# Altium footprint library EsoCore.PcbLib: 105 footprints (part 3 of 7)
Each footprint in its own frame and in the unit in brackets; x right, y up, seen from the top. Pads: shape width x height; smd on the part's side, far side on the other; paste and mask are expansions set on the pad; w line width, h text height; cw(c..) or ccw(c..) is an arc to the next point about the centre after c.
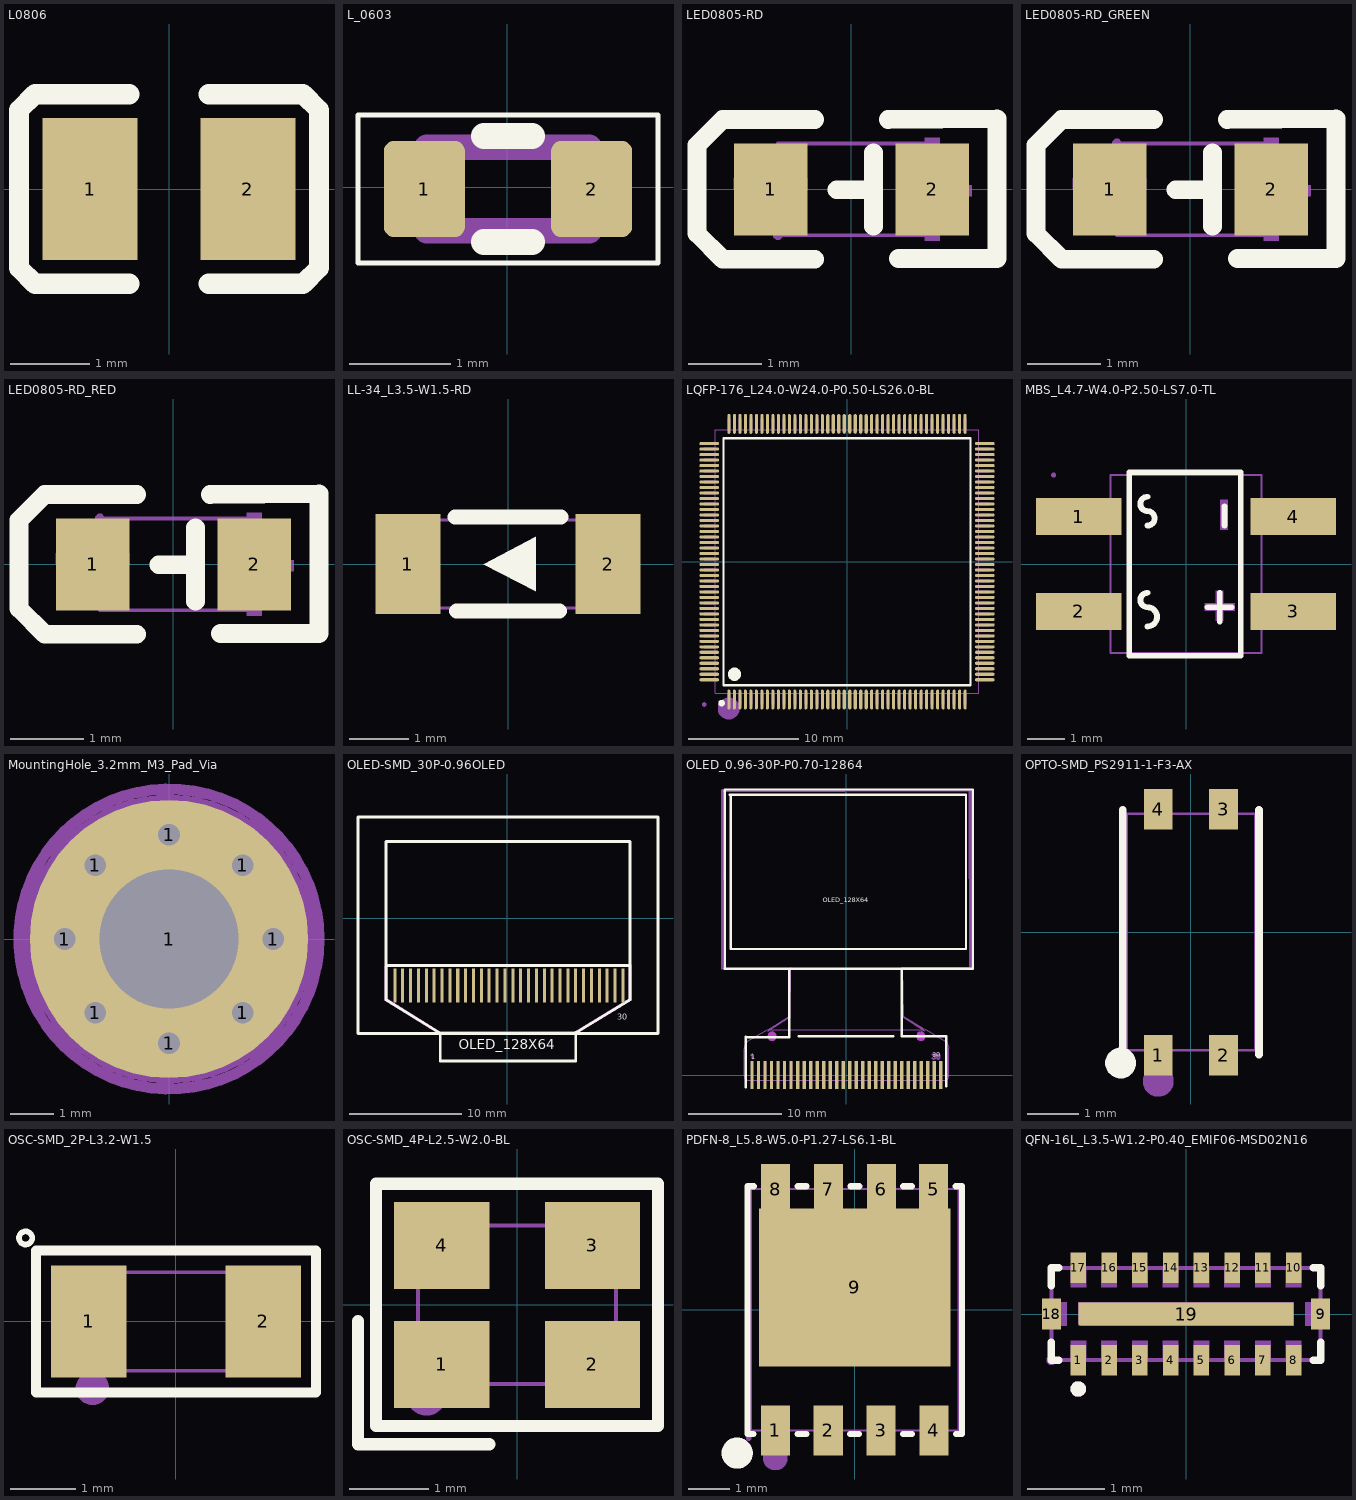
[diagram p2: the footprints below, top view; thin cyan lines are the x and y axes]

## L0806 [mm]
pads (2):
  rect 1.2x1.8 smd paste+0 mask+0.051: 1(-1,0) 2(1,0)
Top Overlay:
  lines w0.254: -0.5,-1.2 -1.55,-1.2 -1.7,-1.2 -1.9,-1 -1.9,1 -1.7,1.2 -1.55,1.2 -0.5,1.2 ; 0.5,-1.2 1.55,-1.2 1.7,-1.2 1.9,-1 1.9,1 1.7,1.2 1.55,1.2 0.5,1.2
3D body "indcutor0806x.step": height 1, standoff 0, extent -0.95,-0.78 1.05,0.82

## L_0603 [mm]
pads (2):
  rrect25% 0.8x0.95 smd mask+0: 1(-0.819,-0.019) 2(0.831,-0.019)
Top Overlay:
  lines w0.051: -1.474,-0.749 1.486,-0.749 1.486,0.711 -1.474,0.711 -1.474,-0.749
  lines w0.254: -0.231,-0.541 0.244,-0.541 ; -0.231,0.504 0.244,0.504
Mechanical 10:
  lines w0.254: -0.794,-0.431 0.806,-0.431 0.806,0.394 -0.794,0.394 -0.794,-0.431
  text "'.Designator'" at -1.651,-0.165 h0.4
3D body "R_0603_1608Metric.step": height 0.45, standoff 0, extent -0.794,-0.419 0.806,0.381

## LED0805-RD [mm]
pads (2):
  rect 1x1.25 smd: 1(-1.1,0) 2(1.1,0)
Top Overlay:
  lines w0.254: -0.5,-0.95 -1.75,-0.95 ; -0.5,0.95 -1.75,0.95 ; -0.2,-0.005 0.3,-0.005 ; 0.3,-0.5 0.3,0.5 ; 0.5,0.95 1.98,0.96 1.98,-0.94 0.64,-0.94 ; -1.75,-0.95 -2.1,-0.6 -2.1,0.6 -1.75,0.95 ; -1.75,-0.95 -1.75,-0.95 ; -1.75,0.95 -1.75,0.95
Mechanical 6:
  region: -1.6,0 -0.6,0 -0.6,0.15 -1.6,0.15
  region: 0.635,-0.094 1.635,-0.094 1.635,0.056 0.635,0.056
  region: 1,0.7 1.2,0.7 1.2,-0.7 1,-0.7
Mechanical 15:
  region: -0.94,-0.625 -0.94,-0.65 -0.975,-0.685 -1.025,-0.685 -1.06,-0.65 -1.06,-0.625 -1.06,-0.6 -1.025,-0.565 -0.975,-0.565 -0.94,-0.6 -0.94,-0.625
  region: -0.65,-0.625 -1,-0.625 -1,0.625 -0.65,0.625
  region: 1,-0.625 0.65,-0.625 0.65,0.625 1,0.625
  lines w0.051: -1,-0.625 1,-0.625 1,0.625 -1,0.625 -1,-0.625
3D body "LED1X.step": height 1.01, standoff 0, extent -1.01,-0.625 1.01,0.625

## LED0805-RD_GREEN [mm]
pads (2):
  rect 1x1.25 smd: 1(-1.1,0) 2(1.1,0)
Top Overlay:
  lines w0.254: -0.5,-0.95 -1.75,-0.95 ; -0.5,0.95 -1.75,0.95 ; -0.2,-0.005 0.3,-0.005 ; 0.3,-0.5 0.3,0.5 ; 0.5,0.95 1.98,0.96 1.98,-0.94 0.64,-0.94 ; -1.75,-0.95 -2.1,-0.6 -2.1,0.6 -1.75,0.95 ; -1.75,-0.95 -1.75,-0.95 ; -1.75,0.95 -1.75,0.95
Mechanical 6:
  region: -1.6,0 -0.6,0 -0.6,0.15 -1.6,0.15
  region: 0.635,-0.094 1.635,-0.094 1.635,0.056 0.635,0.056
  region: 1,0.7 1.2,0.7 1.2,-0.7 1,-0.7
Mechanical 15:
  region: -0.94,0.625 -0.94,0.6 -0.975,0.565 -1.025,0.565 -1.06,0.6 -1.06,0.625 -1.06,0.65 -1.025,0.685 -0.975,0.685 -0.94,0.65 -0.94,0.625
  region: -0.65,-0.625 -1,-0.625 -1,0.625 -0.65,0.625
  region: 1,-0.625 0.65,-0.625 0.65,0.625 1,0.625
  lines w0.051: -1,-0.625 1,-0.625 1,0.625 -1,0.625 -1,-0.625
3D body "LED1X.step": height 1.01, standoff 0, extent -1.01,-0.625 1.01,0.625

## LED0805-RD_RED [mm]
pads (2):
  rect 1x1.25 smd: 1(-1.1,0) 2(1.1,0)
Top Overlay:
  lines w0.254: -0.5,-0.95 -1.75,-0.95 ; -0.5,0.95 -1.75,0.95 ; -0.2,-0.005 0.3,-0.005 ; 0.3,-0.5 0.3,0.5 ; 0.5,0.95 1.98,0.96 1.98,-0.94 0.64,-0.94 ; -1.75,-0.95 -2.1,-0.6 -2.1,0.6 -1.75,0.95 ; -1.75,-0.95 -1.75,-0.95 ; -1.75,0.95 -1.75,0.95
Mechanical 6:
  region: -1.6,0 -0.6,0 -0.6,0.15 -1.6,0.15
  region: 0.635,-0.094 1.635,-0.094 1.635,0.056 0.635,0.056
  region: 1,0.7 1.2,0.7 1.2,-0.7 1,-0.7
Mechanical 15:
  region: -0.65,-0.625 -1,-0.625 -1,0.625 -0.65,0.625
  region: 1,-0.625 0.65,-0.625 0.65,0.625 1,0.625
  region: -0.94,0.625 -0.94,0.6 -0.975,0.565 -1.025,0.565 -1.06,0.6 -1.06,0.625 -1.06,0.65 -1.025,0.685 -0.975,0.685 -0.94,0.65 -0.94,0.625
  lines w0.051: -1,-0.625 1,-0.625 1,0.625 -1,0.625 -1,-0.625
3D body "LED1X.step": height 1.01, standoff 0, extent -1.01,-0.625 1.01,0.625

## LL-34_L3.5-W1.5-RD [mm]
pads (2):
  rect 1.1x1.7 smd: 1(-1.7,0) 2(1.7,0)
Top Overlay:
  region: -0.42,-0.005 -0.415,0 0.475,0.46 0.475,-0.46
  lines w0.254: -0.9,0.8 0.9,0.8 ; -0.878,-0.8 0.878,-0.8
Mechanical 6:
  region: 1.604,-0.335 1.604,0.326 1.782,0.326 1.782,-0.335
  region: 2.035,-0.096 1.374,-0.096 1.374,0.082 2.035,0.082
  region: -1.365,-0.096 -2.026,-0.096 -2.026,0.082 -1.365,0.082
Mechanical 15:
  region: -1.686,-0.75 -1.686,-0.775 -1.721,-0.81 -1.771,-0.81 -1.806,-0.775 -1.806,-0.75 -1.806,-0.725 -1.771,-0.69 -1.721,-0.69 -1.686,-0.725 -1.686,-0.75
  region: 1.754,-0.75 1.354,-0.75 1.354,0.75 1.754,0.75
  region: -1.346,-0.75 -1.746,-0.75 -1.746,0.75 -1.346,0.75
  lines w0.051: -1.746,-0.75 -1.746,0.75 1.754,0.75 1.754,-0.75 -1.746,-0.75
3D body "DFLIM_X.step": height 1.5, standoff 0, extent -1.701,-0.745 1.701,0.745

## LQFP-176_L24.0-W24.0-P0.50-LS26.0-BL [mm]
pads (176):
  oval 0.28x1.8 smd: 1(-10.75,-12.55) 2(-10.25,-12.55) 3(-9.75,-12.55) 4(-9.25,-12.55) 5(-8.75,-12.55) 6(-8.25,-12.55) 7(-7.75,-12.55) 8(-7.25,-12.55) 9(-6.75,-12.55) 10(-6.25,-12.55) 11(-5.75,-12.55) 12(-5.25,-12.55) 13(-4.75,-12.55) 14(-4.25,-12.55) 15(-3.75,-12.55) 16(-3.25,-12.55) 17(-2.75,-12.55) 18(-2.25,-12.55) 19(-1.75,-12.55) 20(-1.25,-12.55) 21(-0.75,-12.55) 22(-0.25,-12.55) 23(0.25,-12.55) 24(0.75,-12.55) 25(1.25,-12.55) 26(1.75,-12.55) 27(2.25,-12.55) 28(2.75,-12.55) 29(3.25,-12.55) 30(3.75,-12.55) 31(4.25,-12.55) 32(4.75,-12.55) 33(5.25,-12.55) 34(5.75,-12.55) 35(6.25,-12.55) 36(6.75,-12.55) 37(7.25,-12.55) 38(7.75,-12.55) 39(8.25,-12.55) 40(8.75,-12.55) 41(9.25,-12.55) 42(9.75,-12.55) 43(10.25,-12.55) 44(10.75,-12.55) 89(10.75,12.55) 90(10.25,12.55) 91(9.75,12.55) 92(9.25,12.55) 93(8.75,12.55) 94(8.25,12.55) 95(7.75,12.55) 96(7.25,12.55) 97(6.75,12.55) 98(6.25,12.55) 99(5.75,12.55) 100(5.25,12.55) 101(4.75,12.55) 102(4.25,12.55) 103(3.75,12.55) 104(3.25,12.55) 105(2.75,12.55) 106(2.25,12.55) 107(1.75,12.55) 108(1.25,12.55) 109(0.75,12.55) 110(0.25,12.55) 111(-0.25,12.55) 112(-0.75,12.55) 113(-1.25,12.55) 114(-1.75,12.55) 115(-2.25,12.55) 116(-2.75,12.55) 117(-3.25,12.55) 118(-3.75,12.55) 119(-4.25,12.55) 120(-4.75,12.55) 121(-5.25,12.55) 122(-5.75,12.55) 123(-6.25,12.55) 124(-6.75,12.55) 125(-7.25,12.55) 126(-7.75,12.55) 127(-8.25,12.55) 128(-8.75,12.55) 129(-9.25,12.55) 130(-9.75,12.55) 131(-10.25,12.55) 132(-10.75,12.55)
  oval 1.8x0.28 smd: 45(12.55,-10.75) 46(12.55,-10.25) 47(12.55,-9.75) 48(12.55,-9.25) 49(12.55,-8.75) 50(12.55,-8.25) 51(12.55,-7.75) 52(12.55,-7.25) 53(12.55,-6.75) 54(12.55,-6.25) 55(12.55,-5.75) 56(12.55,-5.25) 57(12.55,-4.75) 58(12.55,-4.25) 59(12.55,-3.75) 60(12.55,-3.25) 61(12.55,-2.75) 62(12.55,-2.25) 63(12.55,-1.75) 64(12.55,-1.25) 65(12.55,-0.75) 66(12.55,-0.25) 67(12.55,0.25) 68(12.55,0.75) 69(12.55,1.25) 70(12.55,1.75) 71(12.55,2.25) 72(12.55,2.75) 73(12.55,3.25) 74(12.55,3.75) 75(12.55,4.25) 76(12.55,4.75) 77(12.55,5.25) 78(12.55,5.75) 79(12.55,6.25) 80(12.55,6.75) 81(12.55,7.25) 82(12.55,7.75) 83(12.55,8.25) 84(12.55,8.75) 85(12.55,9.25) 86(12.55,9.75) 87(12.55,10.25) 88(12.55,10.75) 133(-12.55,10.75) 134(-12.55,10.25) 135(-12.55,9.75) 136(-12.55,9.25) 137(-12.55,8.75) 138(-12.55,8.25) 139(-12.55,7.75) 140(-12.55,7.25) 141(-12.55,6.75) 142(-12.55,6.25) 143(-12.55,5.75) 144(-12.55,5.25) 145(-12.55,4.75) 146(-12.55,4.25) 147(-12.55,3.75) 148(-12.55,3.25) 149(-12.55,2.75) 150(-12.55,2.25) 151(-12.55,1.75) 152(-12.55,1.25) 153(-12.55,0.75) 154(-12.55,0.25) 155(-12.55,-0.25) 156(-12.55,-0.75) 157(-12.55,-1.25) 158(-12.55,-1.75) 159(-12.55,-2.25) 160(-12.55,-2.75) 161(-12.55,-3.25) 162(-12.55,-3.75) 163(-12.55,-4.25) 164(-12.55,-4.75) 165(-12.55,-5.25) 166(-12.55,-5.75) 167(-12.55,-6.25) 168(-12.55,-6.75) 169(-12.55,-7.25) 170(-12.55,-7.75) 171(-12.55,-8.25) 172(-12.55,-8.75) 173(-12.55,-9.25) 174(-12.55,-9.75) 175(-12.55,-10.25) 176(-12.55,-10.75)
Top Overlay:
  lines w0.2: -11.25,-11.25 -11.25,11.25 11.25,11.25 11.25,-11.25 -11.25,-11.25
  lines w0.3: -11.425,-12.725 ccw(c-11.424,-12.875) -11.422,-12.725
  lines w0.6: -10.249,-9.949 ccw(c-10.246,-10.249) -10.244,-9.949
Mechanical 6:
  circle w1: c-10.77,-13.37 r0.5
Mechanical 15:
  drawing of 357 lines, arcs and shapes, not listed
3D body "stm323.step": height 1.5, standoff 0, extent -13,-13 13,13

## MBS_L4.7-W4.0-P2.50-LS7.0-TL [mm]
pads (4):
  rect 2.265x0.98 smd: 1(-2.832,1.25) 2(-2.832,-1.25) 3(2.832,-1.25) 4(2.832,1.25)
Top Overlay:
  lines w0.152: -1.016,-1.651 ccw(c-1.018,-1.397) -1.016,-1.143 cw(c-1.016,-0.952) -1.016,-0.762 ; -1.016,1.016 ccw(c-1.018,1.207) -1.016,1.397 cw(c-1.016,1.588) -1.016,1.778 ; 0.572,-1.143 1.207,-1.143 ; 0.889,-1.524 0.889,-0.762 ; 1.016,1.016 1.016,1.524 ; -1.498,-2.426 -1.498,2.426 1.445,2.426 1.445,-2.426 -1.498,-2.426
Mechanical 6:
  region: 0.9,0.9 1.1,0.9 1.1,1.7 0.9,1.7
  region: 0.79,-1.506 0.99,-1.506 0.99,-0.706 0.79,-0.706
  region: 1.291,-1.24 1.291,-1.04 0.491,-1.04 0.491,-1.24
Mechanical 15:
  region: -3.5,2.29 -3.525,2.29 -3.56,2.325 -3.56,2.375 -3.525,2.41 -3.5,2.41 -3.475,2.41 -3.44,2.375 -3.44,2.325 -3.475,2.29 -3.5,2.29
  region: 1.99,-1.55 1.99,-0.95 2.71,-0.95 2.71,-1.55
  region: 2.7,-1.55 2.7,-0.95 3.5,-0.95 3.5,-1.55
  region: 1.99,0.95 1.99,1.55 2.71,1.55 2.71,0.95
  region: 2.7,0.95 2.7,1.55 3.5,1.55 3.5,0.95
  region: -2.71,0.95 -2.71,1.55 -1.99,1.55 -1.99,0.95
  region: -3.5,0.95 -3.5,1.55 -2.7,1.55 -2.7,0.95
  region: -2.71,-1.55 -2.71,-0.95 -1.99,-0.95 -1.99,-1.55
  region: -3.5,-1.55 -3.5,-0.95 -2.7,-0.95 -2.7,-1.55
  lines w0.051: -2,-2.35 2,-2.35 2,2.35 -2,2.35 -2,-2.35
3D body "bridgeX.step": height 2.6, standoff 0, extent -3.472,-2.392 3.528,2.308

## MountingHole_3.2mm_M3_Pad_Via [mm]
pads (9):
  round 0.8 hole 0.5 paste-2539.97 mask+0: 1(-2.4,0) 1(-1.697,-1.697) 1(-1.697,1.697) 1(0,-2.4) 1(0,2.4) 1(1.697,-1.697) 1(1.697,1.697) 1(2.4,0)
  round 6.4 hole 3.2 paste-2539.97 mask+0: 1(0,0)
Mechanical 10:
  text "'.Designator'" at -4.064,-0.254 h1
Mechanical 12:
  circle w0.254: c0,0 r3.45
Mechanical 17:
  circle w0.254: c0,0 r3.2

## OLED-SMD_30P-0.96OLED [mm]
pads (30):
  rect 0.27x3 smd paste+0 mask+0.05: 1(-10.022,-5.971) 2(-9.317,-5.969) 3(-8.617,-5.969) 4(-7.917,-5.969) 5(-7.217,-5.969) 6(-6.517,-5.969) 7(-5.817,-5.969) 8(-5.117,-5.969) 9(-4.417,-5.969) 10(-3.717,-5.969) 11(-3.017,-5.969) 12(-2.317,-5.969) 13(-1.617,-5.969) 14(-0.917,-5.969) 15(-0.217,-5.969) 16(0.483,-5.969) 17(1.183,-5.969) 18(1.883,-5.969) 19(2.583,-5.969) 20(3.283,-5.969) 21(3.983,-5.969) 22(4.683,-5.969) 23(5.383,-5.969) 24(6.083,-5.969) 25(6.783,-5.969) 26(7.483,-5.969) 27(8.183,-5.969) 28(8.878,-5.968) 29(9.577,-5.967) 30(10.276,-5.967)
Top Overlay:
  lines w0.254: -13.295,-10.233 13.405,-10.233 ; -13.295,-10.228 -13.295,9.027 ; -13.295,9.032 13.405,9.032 ; 13.405,-10.228 13.405,9.027 ; -10.806,-4.189 -10.806,-7.237 -5.98,-10.221 -5.98,-12.698 6.085,-12.698 6.085,-10.158 10.911,-7.237 10.911,-4.189 ; -10.806,-4.189 -10.806,6.86 10.911,6.86 10.911,-4.189 ; -10.806,-4.189 10.911,-4.189
  text "OLED_128X64" at -4.329,-11.936 h1.5
  text "30" at 9.768,-9.015 h0.51
Mechanical 15:
  region: 11.049,-4.191 11.049,-7.239 11.049,-7.255 11.041,-7.287 11.025,-7.316 11.002,-7.339 10.988,-7.348 6.162,-10.269 6.154,-10.273 6.138,-10.28 6.122,-10.285 6.105,-10.287 6.096,-10.287 -6.096,-10.287 -6.105,-10.287 -6.122,-10.285 -6.139,-10.28 -6.156,-10.273 -6.163,-10.268 -10.862,-7.347 -10.876,-7.338 -10.898,-7.315 -10.914,-7.287 -10.922,-7.255 -10.922,-7.239 -10.922,-4.318 -10.922,-4.265 -10.848,-4.191 -10.742,-4.191 -10.668,-4.265 -10.668,-4.318 -10.668,-7.168 -6.06,-10.033 6.061,-10.033 10.795,-7.167 10.795,-4.191 10.795,-4.138 10.869,-4.064 10.975,-4.064 11.049,-4.138 11.049,-4.191
3D body "oled_nexx96 v0.step": height 2.8, standoff 0.15, extent -13.223,-12.954 13.477,10.377

## OLED_0.96-30P-P0.70-12864 [mm]
pads (30):
  rect 0.351x3 smd: 1(-10.15,0.002) 2(-9.45,0) 3(-8.75,0) 4(-8.05,0) 5(-7.35,0) 6(-6.65,0) 7(-5.95,0) 8(-5.25,0) 9(-4.55,0) 10(-3.85,0) 11(-3.15,0) 12(-2.45,0) 13(-1.75,0) 14(-1.05,0) 15(-0.35,0) 16(0.35,0) 17(1.05,0) 18(1.75,0) 19(2.45,0) 20(3.15,0) 21(3.85,0) 22(4.55,0) 23(5.25,0) 24(5.95,0) 25(6.65,0) 26(7.35,0) 27(8.05,0) 28(8.75,-0.001) 29(9.45,-0.002) 30(10.15,-0.002)
Top Overlay:
  lines w0.254: -12.442,30.16 12.858,30.16 12.858,13.56 -12.442,13.56 -12.442,30.06 -12.542,30.16 -12.242,30.16 -11.842,30.16 ; -10.848,-1.302 -10.848,4.098 ; -10.842,4.06 -6.142,4.06 -6.142,11.46 ; -5.142,4.16 5.058,4.16 ; 5.958,11.36 5.958,4.16 10.758,4.16 ; 10.752,-1.202 10.752,4.198 ; -13.1,11.44 13.6,11.44 13.6,30.7 -13.1,30.7 -13.1,11.44
  text "OLED_128X64" at -2.541,18.567 h0.51
  text "30" at 9.23,1.96 h0.51
  text "1" at -10.25,1.7 h0.51
Keep-Out Layer:
  board cut-out: -7.55,4.18 -7.55,4.091 -7.618,3.925 -7.745,3.799 -7.91,3.73 -8.089,3.73 -8.255,3.799 -8.381,3.925 -8.45,4.091 -8.45,4.18 -8.45,4.27 -8.381,4.435 -8.255,4.562 -8.089,4.63 -7.91,4.63 -7.745,4.562 -7.618,4.435 -7.55,4.27 -7.55,4.18
  board cut-out: 8.45,4.18 8.45,4.091 8.381,3.925 8.255,3.799 8.089,3.73 7.91,3.73 7.745,3.799 7.618,3.925 7.55,4.091 7.55,4.18 7.55,4.27 7.618,4.435 7.745,4.562 7.91,4.63 8.089,4.63 8.255,4.562 8.381,4.435 8.45,4.27 8.45,4.18
Keep-Out Layer:
  circle w0.005: c-8,4.18 r0.45
  circle w0.005: c8,4.18 r0.45
  region: -7.55,4.18 -7.55,4.091 -7.618,3.925 -7.745,3.799 -7.91,3.73 -8.089,3.73 -8.255,3.799 -8.381,3.925 -8.45,4.091 -8.45,4.18 -8.45,4.27 -8.381,4.435 -8.255,4.562 -8.089,4.63 -7.91,4.63 -7.745,4.562 -7.618,4.435 -7.55,4.27 -7.55,4.18
  region: 8.45,4.18 8.45,4.091 8.381,3.925 8.255,3.799 8.089,3.73 7.91,3.73 7.745,3.799 7.618,3.925 7.55,4.091 7.55,4.18 7.55,4.27 7.618,4.435 7.745,4.562 7.91,4.63 8.089,4.63 8.255,4.562 8.381,4.435 8.45,4.27 8.45,4.18
Mechanical 1:
  circle w0.005: c-8,4.18 r0.45
  circle w0.005: c8,4.18 r0.45
Mechanical 6:
  circle w0.4: c8,4.18 r0.2
  circle w0.4: c-8,4.18 r0.2
  region: 9.2,2.2 9.24,2.15 9.38,2.15 9.32,2.05 9.32,2 9.36,1.96 9.44,1.95 9.46,1.95 9.48,1.91 9.48,1.88 9.46,1.84 9.43,1.82 9.4,1.8 9.35,1.81 9.31,1.82 9.29,1.88 9.24,1.9 9.17,1.88 9.15,1.84 9.18,1.75 9.25,1.69 9.33,1.66 9.43,1.66 9.53,1.69 9.6,1.76 9.62,1.84 9.63,1.94 9.6,2.03 9.55,2.07 9.53,2.09 9.59,2.17 9.61,2.22 9.59,2.27 9.55,2.3 9.25,2.3 9.2,2.25
  region: 10.02,1.72 9.92,1.66 9.82,1.66 9.73,1.7 9.66,1.78 9.64,1.9 9.64,2.05 9.66,2.15 9.73,2.26 9.86,2.3 9.85,2.14 9.82,2.12 9.8,2.09 9.78,2.01 9.78,1.95 9.8,1.86 9.83,1.82 9.87,1.81 9.91,1.82 9.93,1.85 9.95,1.95 9.95,2 9.93,2.09 9.91,2.13 9.86,2.15 9.87,2.3 9.95,2.28 10.01,2.25 10.07,2.17 10.11,2.03 10.1,1.91 10.08,1.8
  region: -10.32,2.13 -10.28,2.08 -10.23,2.08 -10.19,2.09 -10.2,1.75 -10.12,1.68 -10.05,1.75 -10.05,2.27 -10.1,2.32 -10.17,2.31 -10.24,2.24 -10.31,2.2
  region: 8.49,4.91 6.15,6.34 6.08,11.45 13.39,11.43 13.35,30.71 0.02,30.69 0.02,30.48 13.15,30.52 13.19,11.61 5.99,11.58 5.89,11.59 5.93,6.33 5.93,6.26 8.39,4.73 8.26,5.01
  region: -8.58,4.84 -6.24,6.27 -6.17,11.38 -13.48,11.36 -13.44,30.64 -0.11,30.62 -0.11,30.41 -13.24,30.45 -13.28,11.54 -6.08,11.51 -5.98,11.52 -6.02,6.26 -6.02,6.19 -8.48,4.66 -8.35,4.94
Mechanical 15:
  drawing of 49 lines, arcs and shapes, not listed
3D body "OLED.step": height 1.42, standoff 0, extent -13.477,-0.696 13.223,30.574

## OPTO-SMD_PS2911-1-F3-AX [mm]
pads (4):
  rect 0.56x0.785 smd: 1(-0.635,-2.392) 2(0.635,-2.392) 3(0.635,2.392) 4(-0.635,2.392)
Top Overlay:
  circle w0.3: c-1.367,-2.545 r0.15
  lines w0.152: -1.326,-2.376 -1.326,2.376 ; 1.326,-2.376 1.326,2.376
Mechanical 6:
  circle w0.3: c-0.635,-2.9 r0.15
Mechanical 15:
  region: -0.835,-2.025 -0.435,-2.025 -0.435,-2.5 -0.835,-2.5
  region: 0.435,-2.025 0.835,-2.025 0.835,-2.5 0.435,-2.5
  region: 0.435,2.025 0.835,2.025 0.835,2.5 0.435,2.5
  region: -0.835,2.025 -0.435,2.025 -0.435,2.5 -0.835,2.5
  region: -1.19,-2.5 -1.19,-2.525 -1.225,-2.56 -1.275,-2.56 -1.31,-2.525 -1.31,-2.5 -1.31,-2.475 -1.275,-2.44 -1.225,-2.44 -1.19,-2.475 -1.19,-2.5
  lines w0.051: -1.25,-2.3 -1.25,2.3 1.25,2.3 1.25,-2.3 -1.25,-2.3
3D body "opto.step": height 2.1, standoff 0, extent -1.25,-2.5 1.25,2.5

## OSC-SMD_2P-L3.2-W1.5 [mm]
pads (2):
  rect 1.15x1.7 smd: 1(-1.325,0) 2(1.325,0)
Top Overlay:
  circle w0.085: c-2.286,1.27 r0.1
  lines w0.152: -2.129,-1.079 -2.129,1.079 2.129,1.079 2.129,-1.079 -2.129,-1.079
Mechanical 6:
  circle w0.254: c-1.27,-1.016 r0.127
Mechanical 15:
  region: -1.54,-0.75 -1.54,-0.775 -1.575,-0.81 -1.625,-0.81 -1.66,-0.775 -1.66,-0.75 -1.66,-0.725 -1.625,-0.69 -1.575,-0.69 -1.54,-0.725 -1.54,-0.75
  region: -0.85,-0.75 -0.85,0.75 -1.6,0.75 -1.6,-0.75
  region: 0.85,-0.75 0.85,0.75 1.6,0.75 1.6,-0.75
  lines w0.051: -1.6,-0.75 -1.6,0.75 1.6,0.75 1.6,-0.75 -1.6,-0.75
3D body "oscX.step": height 0.73, standoff 0, extent -1.555,-0.745 1.645,0.755

## OSC-SMD_4P-L2.5-W2.0-BL [mm]
pads (4):
  rect 1.2x1.1 smd: 1(-0.95,-0.75) 2(0.95,-0.75) 3(0.95,0.75) 4(-0.95,0.75)
Top Overlay:
  lines w0.152: -2.007,-0.201 -2.007,-1.758 -0.351,-1.758 ; -1.779,-1.529 1.779,-1.529 1.779,1.529 -1.779,1.529 -1.779,-1.529
Mechanical 6:
  circle w0.254: c-1.143,-1.143 r0.127
  region: 0.635,-0.635 1.143,-0.635 1.143,-0.762 0.635,-0.762
  region: -0.953,0.318 -0.953,0.826 -0.826,0.826 -0.826,0.318
  region: -1.143,0.635 -0.635,0.635 -0.635,0.508 -1.143,0.508
Mechanical 15:
  region: 1.25,-1 0.45,-1 0.45,-0.325 1.25,-0.325
  region: 1.25,0.325 0.45,0.325 0.45,1 1.25,1
  region: -0.45,-1 -1.25,-1 -1.25,-0.325 -0.45,-0.325
  region: -1.25,1 -0.45,1 -0.45,0.325 -1.25,0.325
  region: -1.19,-1 -1.19,-1.025 -1.225,-1.06 -1.275,-1.06 -1.31,-1.025 -1.31,-1 -1.31,-0.975 -1.275,-0.94 -1.225,-0.94 -1.19,-0.975 -1.19,-1
  lines w0.051: -1.25,-1 1.25,-1 1.25,1 -1.25,1 -1.25,-1
3D body "crystal.step": height 0.57, standoff 0, extent -1.25,-1 1.25,1

## PDFN-8_L5.8-W5.0-P1.27-LS6.1-BL [mm]
pads (9):
  rect 0.7x1.2 smd paste-100 mask+0.05: 1(-1.905,-2.9) 2(-0.635,-2.9) 3(0.635,-2.9) 4(1.905,-2.9) 5(1.9,2.9) 6(0.64,2.9) 7(-0.63,2.9) 8(-1.9,2.9)
  rect 4.6x3.8 smd paste-100 mask+0.05: 9(0,0.54)
Top Overlay:
  lines w0.15: -2.58,2.97 -2.58,-2.99 -2.434,-2.99 ; -2.57,2.97 -2.429,2.97 ; -1.376,-2.99 -1.164,-2.99 ; -1.371,2.97 -1.159,2.97 ; -0.106,-2.99 0.106,-2.99 ; -0.101,2.97 0.111,2.97 ; 1.164,-2.99 1.376,-2.99 ; 1.169,2.97 1.371,2.97 ; 2.429,2.97 2.58,2.97 2.58,2.94 2.58,-2.99 2.434,-2.99
  lines w0.5: -2.95,-3.45 ccw(c-2.826,-3.449) -2.95,-3.447
Top Paste:
  region: -2.252,3.501 -1.552,3.501 -1.552,2.438 -0.979,2.438 -0.979,3.501 -0.283,3.501 -0.283,2.443 0.289,2.443 0.289,3.504 0.994,3.504 0.994,2.439 1.546,2.439 1.546,3.501 2.243,3.501 2.243,2.302 2.301,2.302 2.301,-1.356 -2.299,-1.356 -2.299,2.25 -2.258,2.25 -2.258,2.268
  region: -2.255,-2.3 -1.555,-2.3 -1.555,-3.5 -2.255,-3.5
  region: -0.985,-2.3 -0.285,-2.3 -0.285,-3.5 -0.985,-3.5
  region: 0.285,-2.3 0.985,-2.3 0.985,-3.5 0.285,-3.5
  region: 1.555,-2.3 2.255,-2.3 2.255,-3.5 1.555,-3.5
Mechanical 6:
  circle w0.3: c-1.91,-3.56 r0.15
Mechanical 15:
  region: 2.11,2.3 1.69,2.3 1.69,3.05 2.11,3.05
  region: 0.85,2.3 0.43,2.3 0.43,3.05 0.85,3.05
  region: -0.42,2.3 -0.84,2.3 -0.84,3.05 -0.42,3.05
  region: -2,2.35 2,2.35 2,-1.05 -2,-1.05
  region: -1.69,2.3 -2.11,2.3 -2.11,3.05 -1.69,3.05
  region: -2.115,-2.45 -1.695,-2.45 -1.695,-3.05 -2.115,-3.05
  region: -0.845,-2.45 -0.425,-2.45 -0.425,-3.05 -0.845,-3.05
  region: 0.425,-2.45 0.845,-2.45 0.845,-3.05 0.425,-3.05
  region: 1.695,-2.45 2.115,-2.45 2.115,-3.05 1.695,-3.05
  region: -2.49,-3.094 -2.49,-3.119 -2.525,-3.154 -2.575,-3.154 -2.61,-3.119 -2.61,-3.094 -2.61,-3.069 -2.575,-3.034 -2.525,-3.034 -2.49,-3.069 -2.49,-3.094
  lines w0.051: -2.5,-2.9 -2.5,2.9 2.5,2.9 2.5,-2.9 -2.5,-2.9
3D body "mosrx.step": height 1.01, standoff 0, extent -2.55,-3.05 2.55,3.05

## QFN-16L_L3.5-W1.2-P0.40_EMIF06-MSD02N16 [mm]
pads (19):
  rect 0.2x0.4 smd paste-100 mask+0.05: 1(-1.4,-0.6) 2(-1,-0.6) 3(-0.6,-0.6) 4(-0.2,-0.6) 5(0.2,-0.6) 6(0.6,-0.6) 7(1,-0.6) 8(1.4,-0.6) 10(1.4,0.6) 11(1,0.6) 12(0.6,0.6) 13(0.2,0.6) 14(-0.2,0.6) 15(-0.6,0.6) 16(-1,0.6) 17(-1.4,0.6)
  rect 0.25x0.4 smd paste-100 mask+0.05: 9(1.75,0) 18(-1.75,0)
  rect 2.8x0.3 smd paste-100 mask+0.05: 19(0,0)
Top Overlay:
  circle w0.1: c-1.4,-0.975 r0.05
  lines w0.1: -1.75,-0.367 -1.75,-0.6 -1.654,-0.6 ; -1.75,0.367 -1.75,0.6 -1.654,0.6 ; 1.654,-0.6 1.75,-0.6 1.75,-0.367 ; 1.654,0.6 1.75,0.6 1.75,0.367
Top Paste:
  region: -0.5,-0.8 -0.5,-0.4 -0.7,-0.4 -0.7,-0.8
  region: -0.1,-0.8 -0.1,-0.4 -0.3,-0.4 -0.3,-0.8
  region: -1.1,-0.4 -1.1,-0.8 -0.9,-0.8 -0.9,-0.4
  region: 0.3,-0.8 0.3,-0.4 0.1,-0.4 0.1,-0.8
  region: 0.7,-0.8 0.7,-0.4 0.5,-0.4 0.5,-0.8
  region: 1.1,-0.8 1.1,-0.4 0.9,-0.4 0.9,-0.8
  region: -1.5,-0.4 -1.5,-0.8 -1.3,-0.8 -1.3,-0.4
  region: 1.5,-0.8 1.5,-0.4 1.3,-0.4 1.3,-0.8
  region: -1.2,0.1 -1.2,-0.1 1.2,-0.1 1.2,0.1
  region: 1.625,0.2 1.625,-0.2 1.875,-0.2 1.875,0.2
  region: -1.625,-0.2 -1.625,0.2 -1.875,0.2 -1.875,-0.2
  region: -0.1,0.4 -0.1,0.8 -0.3,0.8 -0.3,0.4
  region: -0.5,0.4 -0.5,0.8 -0.7,0.8 -0.7,0.4
  region: -0.9,0.4 -0.9,0.8 -1.1,0.8 -1.1,0.4
  region: 0.1,0.8 0.1,0.4 0.3,0.4 0.3,0.8
  region: -1.3,0.4 -1.3,0.8 -1.5,0.8 -1.5,0.4
  region: 0.5,0.8 0.5,0.4 0.7,0.4 0.7,0.8
  region: 1.1,0.4 1.1,0.8 0.9,0.8 0.9,0.4
  region: 1.5,0.4 1.5,0.8 1.3,0.8 1.3,0.4
Mechanical 6:
  circle w0.1: c-1.4,-0.975 r0.05
Mechanical 15:
  region: -1.55,0.15 -1.55,-0.15 -1.75,-0.15 -1.75,0.15
  region: 1.75,0.15 1.75,-0.15 1.55,-0.15 1.55,0.15
  region: -1.4,-0.12 -1.4,0.15 1.4,0.15 1.4,-0.15 -1.37,-0.15
  region: -1.3,0.6 -1.3,0.35 -1.5,0.35 -1.5,0.6
  region: -0.9,0.6 -0.9,0.35 -1.1,0.35 -1.1,0.6
  region: -0.5,0.6 -0.5,0.35 -0.7,0.35 -0.7,0.6
  region: -0.1,0.6 -0.1,0.35 -0.3,0.35 -0.3,0.6
  region: 0.3,0.6 0.3,0.35 0.1,0.35 0.1,0.6
  region: 0.7,0.6 0.7,0.35 0.5,0.35 0.5,0.6
  region: 1.1,0.6 1.1,0.35 0.9,0.35 0.9,0.6
  region: 1.5,0.6 1.5,0.35 1.3,0.35 1.3,0.6
  region: 1.5,-0.6 1.5,-0.35 1.3,-0.35 1.3,-0.6
  region: 1.1,-0.6 1.1,-0.35 0.9,-0.35 0.9,-0.6
  region: 0.7,-0.6 0.7,-0.35 0.5,-0.35 0.5,-0.6
  region: 0.3,-0.6 0.3,-0.35 0.1,-0.35 0.1,-0.6
  region: -0.1,-0.6 -0.1,-0.35 -0.3,-0.35 -0.3,-0.6
  region: -0.5,-0.6 -0.5,-0.35 -0.7,-0.35 -0.7,-0.6
  region: -0.9,-0.6 -0.9,-0.35 -1.1,-0.35 -1.1,-0.6
  region: -1.3,-0.6 -1.3,-0.35 -1.5,-0.35 -1.5,-0.6
  region: -1.69,-0.6 -1.69,-0.625 -1.725,-0.66 -1.775,-0.66 -1.81,-0.625 -1.81,-0.6 -1.81,-0.575 -1.775,-0.54 -1.725,-0.54 -1.69,-0.575 -1.69,-0.6
  lines w0.051: -1.75,-0.6 1.75,-0.6 1.75,0.6 -1.75,0.6 -1.75,-0.6
3D body "ESD5X.step": height 0.53, standoff 0, extent -1.693,-0.571 1.807,0.629